# Altium footprint library Conectors.PcbLib: 137 footprints (part 4 of 9)
Each footprint in its own frame and in the unit in brackets; x right, y up, seen from the top. Pads: shape width x height; smd on the part's side, far side on the other; paste and mask are expansions set on the pad; w line width, h text height; cw(c..) or ccw(c..) is an arc to the next point about the centre after c.
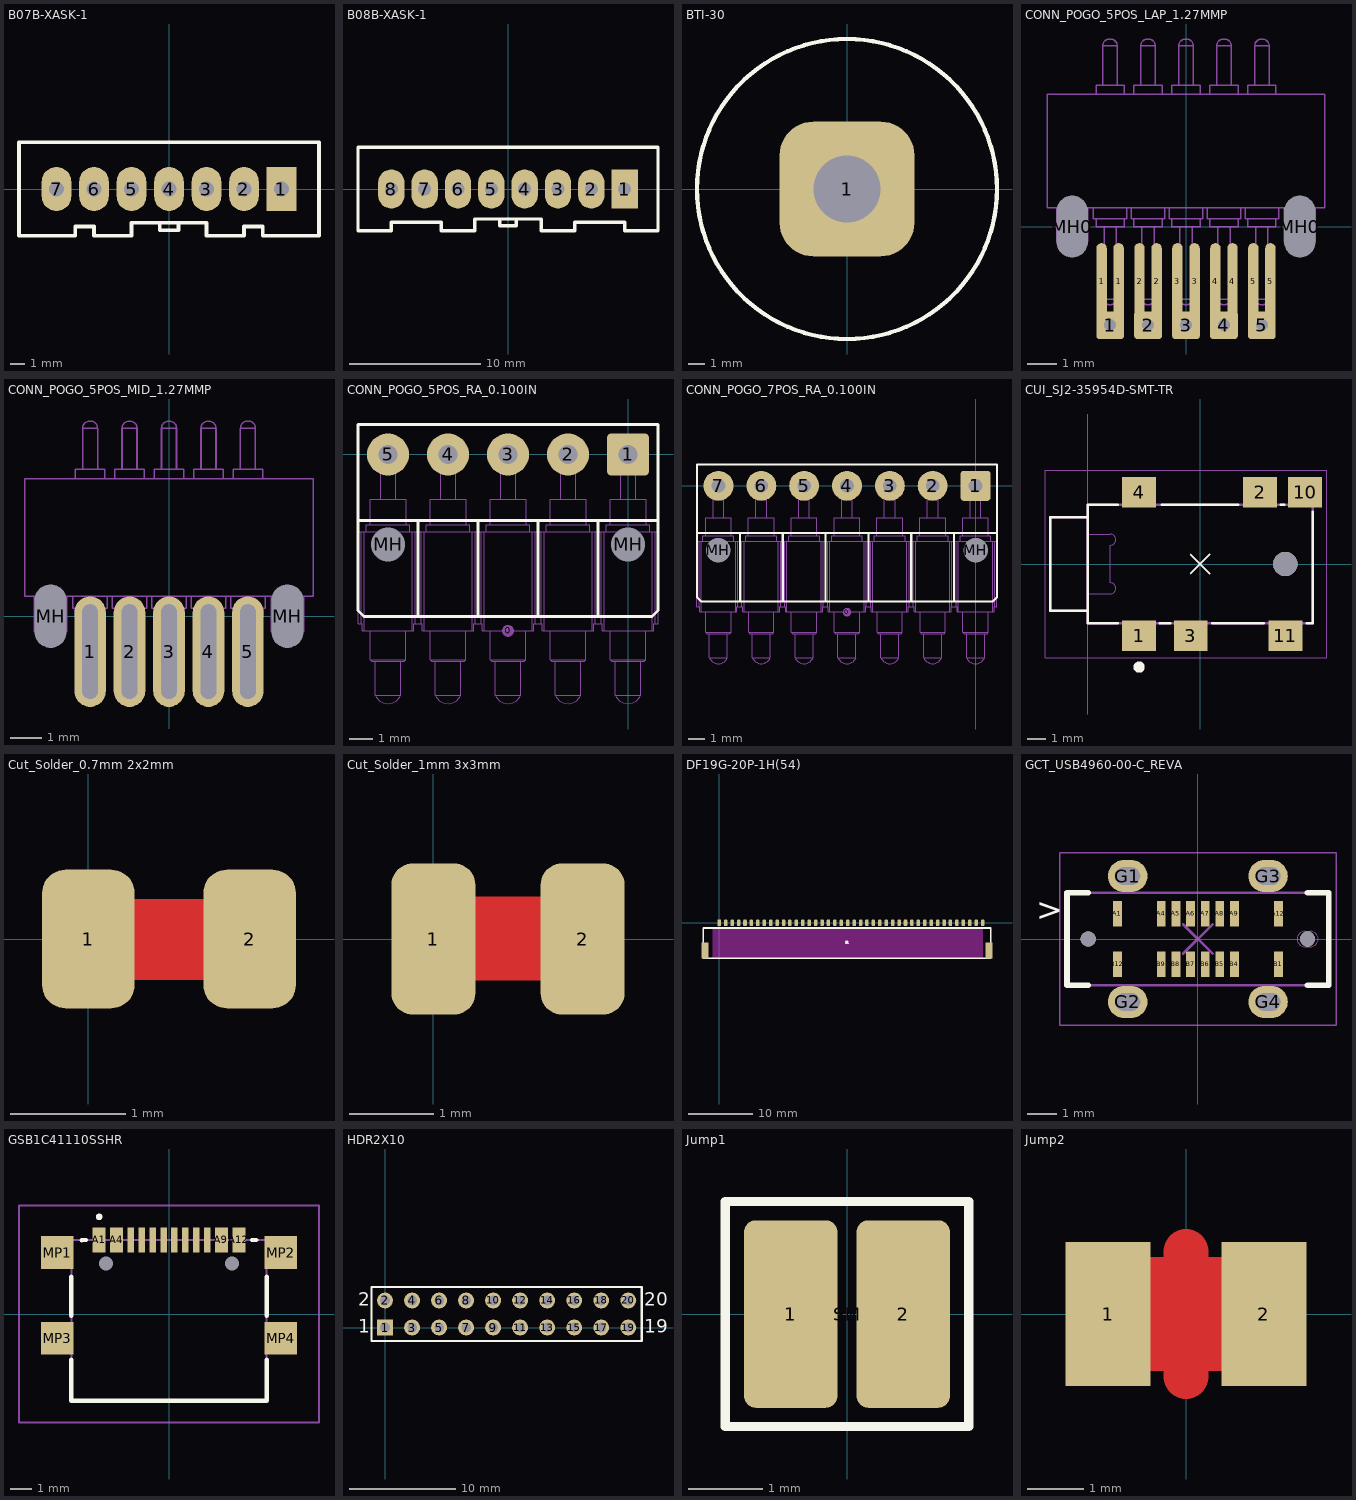
[diagram p3: the footprints below, top view; thin cyan lines are the x and y axes]

## B07B-XASK-1 [mm] "CONN HEADER XA 7POS 2.5MM TIN"
height 11.3
pads (7):
  rect 2x3 hole 1: 1(7.62,0)
  oval 2x3 hole 1: 2(5.08,0) 3(2.54,0) 4(0,0) 5(-2.54,0) 6(-5.08,0) 7(-7.62,0)
Top Overlay:
  lines w0.254: -0.635,-2.286 -0.635,-2.794 0,-2.794 0.635,-2.794 0.635,-2.286 ; -10.16,-3.175 -10.16,3.175 10.16,3.175 10.16,-3.175 6.35,-3.175 6.35,-2.54 5.08,-2.54 5.08,-3.175 2.54,-3.175 2.54,-2.286 -2.54,-2.286 -2.54,-3.175 -5.08,-3.175 -5.08,-2.54 -6.35,-2.54 -6.35,-3.175 -10.16,-3.175

## B08B-XASK-1 [mm] "CONN HEADER XA 8POS 2.5MM TIN"
height 11.3
pads (8):
  rect 2x3 hole 1: 1(8.89,0)
  oval 2x3 hole 1: 2(6.35,0) 3(3.81,0) 4(1.27,0) 5(-1.27,0) 6(-3.81,0) 7(-6.35,0) 8(-8.89,0)
Top Overlay:
  lines w0.254: -0.635,-2.286 -0.635,-2.794 0,-2.794 0.635,-2.794 0.635,-2.286 ; -11.43,-3.175 -11.43,3.175 11.43,3.175 11.43,-3.175 8.89,-3.175 8.89,-2.54 5.08,-2.54 5.08,-3.175 2.54,-3.175 2.54,-2.286 -2.54,-2.286 -2.54,-3.175 -5.08,-3.175 -5.08,-2.54 -8.89,-2.54 -8.89,-3.175 -11.43,-3.175
3D body "B08B-XASK-1.STEP": height 8.8, standoff -3.4, extent -11.25,-3.2 11.25,3.2

## BTI-30 [mm] "BTI-30 Binding post"
pads (1):
  rrect50% 8x8 hole 4: 1(0,0)
Top Overlay:
  circle w0.254: c0,0 r8.89
3D body "User Library-BTI30.step": height 25.14, standoff -33.29, extent -8.65,-8.65 8.65,8.65

## CONN_POGO_5POS_LAP_1.27MMP [mm] "Programming connector; lap-soldered 5 Position pogo style, 0.050\" pitch"
height 1.308
pads (17):
  oval 0.35x2.54 smd: 1(-2.825,-1.825) 1(-2.255,-1.825) 2(-1.555,-1.825) 2(-0.985,-1.825) 3(-0.285,-1.825) 3(0.285,-1.825) 4(0.985,-1.825) 4(1.555,-1.825) 5(2.255,-1.825) 5(2.825,-1.825)
  rrect20% 0.925x0.925 hole 0.4 mask+0.1: 1(-2.54,-3.3) 2(-1.27,-3.3) 3(0,-3.3) 4(1.27,-3.3) 5(2.54,-3.3)
  oval 0.991x2.007 hole 1.041 slot 2.057 at 90 deg unplated: MH0(-3.81,0) MH0(3.81,0)
Top Solder:
  rectangle: -2.825,-3.075 -2.25,-0.575
  rectangle: -1.555,-3.075 -0.98,-0.575
  rectangle: -0.285,-3.075 0.29,-0.575
  rectangle: 0.985,-3.075 1.56,-0.575
  rectangle: 2.255,-3.075 2.83,-0.575
Mechanical 13:
  lines w0.05: -4.331,0.635 -4.331,-0.508 -3.289,-0.508 -3.289,0.635 ; -3.099,0.635 -3.099,0.254 -1.981,0.254 -1.981,0.635 ; -3.01,0.254 -3.01,0 -2.07,0 -2.07,0.254 ; -3.01,4.42 -3.01,4.724 -2.07,4.724 -2.07,4.42 ; -2.781,4.724 -2.781,6.045 ; -2.743,0 -2.743,-2.438 ; -2.337,0 -2.337,-2.438 ; -2.299,4.724 -2.299,6.045 ; -1.829,0.635 -1.829,0.254 -0.711,0.254 -0.711,0.635 ; -1.74,0.254 -1.74,0 -0.8,0 -0.8,0.254 ; -1.74,4.42 -1.74,4.724 -0.8,4.724 -0.8,4.42 ; -1.511,4.724 -1.511,6.045 ; -1.473,0 -1.473,-2.438 ; -1.067,0 -1.067,-2.438 ; -1.029,4.724 -1.029,6.045 ; -0.559,0.635 -0.559,0.254 0.559,0.254 0.559,0.635 ; -0.47,0.254 -0.47,0 0.47,0 0.47,0.254 ; -0.47,4.42 -0.47,4.724 0.47,4.724 0.47,4.42 ; -0.241,4.724 -0.241,6.045 ; -0.203,0 -0.203,-2.438 ; 0.203,0 0.203,-2.438 ; 0.241,4.724 0.241,6.045 ; 0.711,0.635 0.711,0.254 1.829,0.254 1.829,0.635 ; 0.8,0.254 0.8,0 1.74,0 1.74,0.254 ; 0.8,4.42 0.8,4.724 1.74,4.724 1.74,4.42 ; 1.029,4.724 1.029,6.045 ; 1.067,0 1.067,-2.438 ; 1.473,0 1.473,-2.438 ; 1.511,4.724 1.511,6.045 ; 1.981,0.635 1.981,0.254 3.099,0.254 3.099,0.635 ; 2.07,0.254 2.07,0 3.01,0 3.01,0.254 ; 2.07,4.42 2.07,4.724 3.01,4.724 3.01,4.42 ; 2.299,4.724 2.299,6.045 ; 2.337,0 2.337,-2.438 ; 2.743,0 2.743,-2.438 ; 2.781,4.724 2.781,6.045 ; 3.289,0.635 3.289,-0.508 4.331,-0.508 4.331,0.635 ; -2.781,6.045 cw(c-2.553,6.045) -2.553,6.274 -2.527,6.274 cw(c-2.527,6.045) -2.299,6.045 ; -2.781,6.045 -2.299,6.045 ; -2.743,-2.438 ccw(c-2.565,-2.438) -2.565,-2.616 -2.515,-2.616 ccw(c-2.515,-2.438) -2.337,-2.438 ; -2.743,-2.438 -2.337,-2.438 ; -1.511,6.045 cw(c-1.283,6.045) -1.283,6.274 -1.257,6.274 cw(c-1.257,6.045) -1.029,6.045 ; -1.511,6.045 -1.029,6.045 ; -1.473,-2.438 ccw(c-1.295,-2.438) -1.295,-2.616 -1.245,-2.616 ccw(c-1.245,-2.438) -1.067,-2.438 ; -1.473,-2.438 -1.067,-2.438 ; -0.241,6.045 cw(c-0.013,6.045) -0.013,6.274 0.013,6.274 cw(c0.013,6.045) 0.241,6.045 ; -0.241,6.045 0.241,6.045 ; -0.203,-2.438 ccw(c-0.025,-2.438) -0.025,-2.616 0.025,-2.616 ccw(c0.025,-2.438) 0.203,-2.438 ; -0.203,-2.438 0.203,-2.438 ; 1.029,6.045 cw(c1.257,6.045) 1.257,6.274 1.283,6.274 cw(c1.283,6.045) 1.511,6.045 ; 1.029,6.045 1.511,6.045 ; 1.067,-2.438 ccw(c1.245,-2.438) 1.245,-2.616 1.295,-2.616 ccw(c1.295,-2.438) 1.473,-2.438 ; 1.067,-2.438 1.473,-2.438 ; 2.299,6.045 cw(c2.527,6.045) 2.527,6.274 2.553,6.274 cw(c2.553,6.045) 2.781,6.045 ; 2.299,6.045 2.781,6.045 ; 2.337,-2.438 ccw(c2.515,-2.438) 2.515,-2.616 2.565,-2.616 ccw(c2.565,-2.438) 2.743,-2.438 ; 2.337,-2.438 2.743,-2.438 ; -4.635,0.635 -4.635,4.42 4.635,4.42 4.635,0.635 -4.635,0.635
3D body "CONN_POGO_50MIL_05POS_LAP.STEP": height 1.31, standoff -0.9, extent -4.635,-2.616 4.636,6.274

## CONN_POGO_5POS_MID_1.27MMP [mil] "Programming connector; lap-soldered 5 Position pogo style, 0.050\" pitch"
height 13
pads (7):
  oval 40x140 hole 20 slot 120 at 90 deg: 1(-100,-45) 2(-50,-45) 3(0,-45) 4(50,-45) 5(100,-45)
  oval 38x78 hole 40 slot 80 at 90 deg unplated: MH(-150,0) MH(150,0)
Top Overlay:
  text "." at -100,-150 h3.94
Bottom Overlay:
  text "." at -100,-150 h3.94
Mechanical 13:
  lines w1.97: -170.5,25 -170.5,-20 -129.5,-20 -129.5,25 ; -122,25 -122,10 -78,10 -78,25 ; -118.5,10 -118.5,0 -81.5,0 -81.5,10 ; -118.5,174 -118.5,186 -81.5,186 -81.5,174 ; -109.5,186 -109.5,238 ; -108,0 -108,-96 ; -92,0 -92,-96 ; -90.5,186 -90.5,238 ; -72,25 -72,10 -28,10 -28,25 ; -68.5,10 -68.5,0 -31.5,0 -31.5,10 ; -68.5,174 -68.5,186 -31.5,186 -31.5,174 ; -59.5,186 -59.5,238 ; -58,0 -58,-96 ; -42,0 -42,-96 ; -40.5,186 -40.5,238 ; -22,25 -22,10 22,10 22,25 ; -18.5,10 -18.5,0 18.5,0 18.5,10 ; -18.5,174 -18.5,186 18.5,186 18.5,174 ; -9.5,186 -9.5,238 ; -8,0 -8,-96 ; 8,0 8,-96 ; 9.5,186 9.5,238 ; 28,25 28,10 72,10 72,25 ; 31.5,10 31.5,0 68.5,0 68.5,10 ; 31.5,174 31.5,186 68.5,186 68.5,174 ; 40.5,186 40.5,238 ; 42,0 42,-96 ; 58,0 58,-96 ; 59.5,186 59.5,238 ; 78,25 78,10 122,10 122,25 ; 81.5,10 81.5,0 118.5,0 118.5,10 ; 81.5,174 81.5,186 118.5,186 118.5,174 ; 90.5,186 90.5,238 ; 92,0 92,-96 ; 108,0 108,-96 ; 109.5,186 109.5,238 ; 129.5,25 129.5,-20 170.5,-20 170.5,25 ; -109.5,238 cw(c-100.5,238) -100.5,247 -99.5,247 cw(c-99.5,238) -90.5,238 ; -109.5,238 -90.5,238 ; -108,-96 ccw(c-101,-96) -101,-103 -99,-103 ccw(c-99,-96) -92,-96 ; -108,-96 -92,-96 ; -59.5,238 cw(c-50.5,238) -50.5,247 -49.5,247 cw(c-49.5,238) -40.5,238 ; -59.5,238 -40.5,238 ; -58,-96 ccw(c-51,-96) -51,-103 -49,-103 ccw(c-49,-96) -42,-96 ; -58,-96 -42,-96 ; -9.5,238 cw(c-0.5,238) -0.5,247 0.5,247 cw(c0.5,238) 9.5,238 ; -9.5,238 9.5,238 ; -8,-96 ccw(c-1,-96) -1,-103 1,-103 ccw(c1,-96) 8,-96 ; -8,-96 8,-96 ; 40.5,238 cw(c49.5,238) 49.5,247 50.5,247 cw(c50.5,238) 59.5,238 ; 40.5,238 59.5,238 ; 42,-96 ccw(c49,-96) 49,-103 51,-103 ccw(c51,-96) 58,-96 ; 42,-96 58,-96 ; 90.5,238 cw(c99.5,238) 99.5,247 100.5,247 cw(c100.5,238) 109.5,238 ; 90.5,238 109.5,238 ; 92,-96 ccw(c99,-96) 99,-103 101,-103 ccw(c101,-96) 108,-96 ; 92,-96 108,-96 ; -182.5,25 -182.5,174 182.5,174 182.5,25 -182.5,25
3D body "CONN_POGO_50MIL_05POS_LAP.STEP": height 12.5, standoff -74.5, extent -182.49,-102.99 182.51,247

## CONN_POGO_5POS_RA_0.100IN [mil] "Connector; Pogo pins; 5 Position"
height 100
pads (8):
  round 20 on Mech15: 0(-200,-294)
  rrect20% 70x70 hole 32: 1(0,0)
  round 70 hole 32: 2(-100,0) 3(-200,0) 4(-300,0) 5(-400,0)
  round 55 hole 57 unplated: MH(-400,-150) MH(0,-150)
Top Overlay:
  lines w5: -450,-110 50,-110 ; -350,-270 -350,-110 ; -250,-270 -250,-110 ; -150,-270 -150,-110 ; -50,-270 -50,-110 ; -450,-260 -450,50 50,50 50,-260 40,-270 -440,-270 -450,-260
Mechanical 13:
  lines w1.97: -445,-282 -445,-129 ; -440,-294 -440,-129 ; -436,-129 -436,-117 -364,-117 -364,-129 ; -430,-117 -430,-75 -370,-75 -370,-117 ; -429.5,-294 -429.5,-342.17 ; -421,-345 -421,-400.97 ; -412.5,-75 -412.5,0 cw(c-400,0) -387.5,0 -387.5,-75 ; -412.5,-25 -387.5,-25 ; -379,-345 -379,-400.97 ; -370.5,-294 -370.5,-342.17 ; -360,-294 -360,-129 ; -355,-282 -355,-129 ; -345,-282 -345,-129 ; -340,-294 -340,-129 ; -336,-129 -336,-117 -264,-117 -264,-129 ; -330,-117 -330,-75 -270,-75 -270,-117 ; -329.5,-294 -329.5,-342.17 ; -321,-345 -321,-400.97 ; -312.5,-75 -312.5,0 cw(c-300,0) -287.5,0 -287.5,-75 ; -312.5,-25 -287.5,-25 ; -279,-345 -279,-400.97 ; -270.5,-294 -270.5,-342.17 ; -260,-294 -260,-129 ; -255,-282 -255,-129 ; -245,-282 -245,-129 ; -240,-294 -240,-129 ; -236,-129 -236,-117 -164,-117 -164,-129 ; -230,-117 -230,-75 -170,-75 -170,-117 ; -229.5,-294 -229.5,-342.17 ; -221,-345 -221,-400.97 ; -212.5,-75 -212.5,0 cw(c-200,0) -187.5,0 -187.5,-75 ; -212.5,-25 -187.5,-25 ; -179,-345 -179,-400.97 ; -170.5,-294 -170.5,-342.17 ; -160,-294 -160,-129 ; -155,-282 -155,-129 ; -145,-282 -145,-129 ; -140,-294 -140,-129 ; -136,-129 -136,-117 -64,-117 -64,-129 ; -130,-117 -130,-75 -70,-75 -70,-117 ; -129.5,-294 -129.5,-342.17 ; -121,-345 -121,-400.97 ; -112.5,-75 -112.5,0 cw(c-100,0) -87.5,0 -87.5,-75 ; -112.5,-25 -87.5,-25 ; -79,-345 -79,-400.97 ; -70.5,-294 -70.5,-342.17 ; -60,-294 -60,-129 ; -55,-282 -55,-129 ; -45,-282 -45,-129 ; -40,-294 -40,-129 ; -36,-129 -36,-117 36,-117 36,-129 ; -30,-117 -30,-75 30,-75 30,-117 ; -29.5,-294 -29.5,-342.17 ; -21,-345 -21,-400.97 ; -12.5,-75 -12.5,0 cw(c0,0) 12.5,0 12.5,-75 ; -12.5,-25 12.5,-25 ; 21,-345 21,-400.97 ; 29.5,-294 29.5,-342.17 ; 40,-294 40,-129 ; 45,-282 45,-129 ; -429.5,-342.17 -426.67,-345 -373.33,-345 -370.5,-342.17 ; -429.5,-342.17 -370.5,-342.17 ; -421,-400.97 ccw(c-400,-392.27) -379,-400.97 ; -421,-400.97 -379,-400.97 ; -329.5,-342.17 -326.67,-345 -273.33,-345 -270.5,-342.17 ; -329.5,-342.17 -270.5,-342.17 ; -321,-400.97 ccw(c-300,-392.27) -279,-400.97 ; -321,-400.97 -279,-400.97 ; -229.5,-342.17 -226.67,-345 -173.33,-345 -170.5,-342.17 ; -229.5,-342.17 -170.5,-342.17 ; -221,-400.97 ccw(c-200,-392.27) -179,-400.97 ; -221,-400.97 -179,-400.97 ; -129.5,-342.17 -126.67,-345 -73.33,-345 -70.5,-342.17 ; -129.5,-342.17 -70.5,-342.17 ; -121,-400.97 ccw(c-100,-392.27) -79,-400.97 ; -121,-400.97 -79,-400.97 ; -29.5,-342.17 -26.67,-345 26.67,-345 29.5,-342.17 ; -29.5,-342.17 29.5,-342.17 ; -21,-400.97 ccw(c0,-392.27) 21,-400.97 ; -21,-400.97 21,-400.97 ; -450,-282 -443.33,-282 -443.33,-294 -356.67,-294 -356.67,-282 -343.33,-282 -343.33,-294 -256.67,-294 -256.67,-282 -243.33,-282 -243.33,-294 -156.67,-294 -156.67,-282 -143.33,-282 -143.33,-294 -56.67,-294 -56.67,-282 -43.33,-282 -43.33,-294 43.33,-294 43.33,-282 50,-282 50,-129 -450,-129 -450,-282
3D body "CONN_POGO_RA_5POS.STEP": height 100, standoff -127, extent -449.99,-414.99 50.01,12.51

## CONN_POGO_7POS_RA_0.100IN [mil] "Connector; Pogo pins; 7 Position"
height 100
pads (10):
  round 20 on Mech15: 0(-300,-295)
  rrect20% 70x70 hole 32: 1(0,0)
  round 70 hole 32: 2(-100,0) 3(-200,0) 4(-300,0) 5(-400,0) 6(-500,0) 7(-600,0)
  round 55 hole 57 unplated: MH(-600,-150) MH(0,-150)
Top Overlay:
  lines w5: -650,-110 50,-110 ; -550,-270 -550,-110 ; -450,-270 -450,-110 ; -350,-270 -350,-110 ; -250,-270 -250,-110 ; -150,-270 -150,-110 ; -50,-270 -50,-110 ; -650,-260 -650,50 50,50 50,-260 40,-270 -640,-270 -650,-260
Mechanical 13:
  drawing of 200 lines, arcs and shapes, not listed
3D body "CONN_POGO_RA_7POS.STEP": height 100, standoff -127, extent -649.99,-415 50.01,12.5

## CUI_SJ2-35954D-SMT-TR [mm]
pads (7):
  rect 1.8x1.65 smd: 1(-3.25,-3.825) 2(3.2,3.825) 3(-0.5,-3.825) 4(-3.25,3.825) 10(5.6,3.825) 11(4.55,-3.825)
  round 1.3 hole 1.3 unplated: ""(4.55,0)
Top Overlay:
  circle w0.3: c-3.25,-5.5 r0.15
  lines w0.1: -0.5,-0.5 0.5,0.5 ; -0.5,0.5 0.5,-0.5
  lines w0.127: -6,2.5 -8,2.5 -8,-2.5 -6,-2.5 ; -4.4,-3.15 -6,-3.15 -6,-2.5 ; -4.4,3.15 -6,3.15 -6,-2.5 ; -2.15,-3.15 -1.6,-3.15 ; -2.05,3.15 2.05,3.15 ; 0.65,-3.15 3.4,-3.15 ; 4.3,3.15 4.5,3.15 ; 5.7,-3.15 6,-3.15 6,2.8
Mechanical 1:
  lines w0: -6,-8 -6,-1.6 -4.8,-1.6 ccw(c-4.8,-1.3) -4.8,-1 -4.8,1 ccw(c-4.8,1.3) -4.8,1.6 -6,1.6 -6,8
Mechanical 13:
  lines w0.127: -6,-2.5 -6,-3.15 6,-3.15 6,3.15 -6,3.15 -6,2.5 ; -6,-2.5 -6,2.5 ; -6,-2.5 -8,-2.5 -8,2.5 -6,2.5
  text "PCB Edge" at -15.726,7.012 h1.27
Mechanical 15:
  lines w0.05: -8.25,-5 6.75,-5 6.75,5 -8.25,5 -8.25,-5
3D body "CUI_DEVICES_SJ2-35954D-SMT-TR.step": height 4.45, standoff -0.55, extent -8,-4.15 6,4.15

## Cut_Solder_0.7mm 2x2mm [mm]
pads (2):
  rrect50% 0.8x1.2 smd paste+0: 1(0,0) 2(1.397,0)
Top Layer:
  rectangle: 0.381,-0.356 1.031,0.344

## Cut_Solder_1mm 3x3mm [mm]
pads (2):
  rrect50% 1x1.8 smd paste+0: 1(0,0) 2(1.778,0)
Top Layer:
  rectangle: 0.473,-0.492 1.321,0.508

## DF19G-20P-1H(54) [mm] "Headers & Wire Housings 20P TOP BRD MNT RECP HORZ SMT"
height 1.65
pads (44):
  rect 0.55x1 smd: 1(0,0)
  rrect50% 0.55x1 smd: 2(1,0) 3(2,0) 4(3,0) 5(4,0) 6(5,0) 7(6,0) 8(7,0) 9(8,0) 10(9,0) 11(10,0) 12(11,0) 13(12,0) 14(13,0) 15(14,0) 16(15,0) 17(16,0) 18(17,0) 19(18,0) 20(19,0) 21(20,0) 22(21,0) 23(22,0) 24(23,0) 25(24,0) 26(25,0) 27(26,0) 28(27,0) 29(28,0) 30(29,0) 31(30,0) 32(31,0) 33(32,0) 34(33,0) 35(34,0) 36(35,0) 37(36,0) 38(37,0) 39(38,0) 40(39,0) 41(40,0) 42(41,0)
  rect 1.1x2.5 smd: 21(-2.225,-4.275) 22(42,-4.275)
Top Layer keep-out:
  region: -1.025,-0.8 41,-0.8 41,-3.25 41,-5.5 -1.025,-5.5
Top Overlay:
  lines w0.254: 19.7,-3.187 20.025,-2.862 ; 19.725,-2.862 20.05,-3.187 ; -2.475,-5.5 42.25,-5.5 42.25,-0.8 -2.475,-0.8 -2.475,-5.5

## GCT_USB4960-00-C_REVA [mm]
height 6.5
pads (22):
  rect 0.3x0.87 smd paste+0 mask+0.102: A1(-2.75,0.865) A4(-1.25,0.865) A5(-0.75,0.865) A6(-0.25,0.865) A7(0.25,0.865) A8(0.75,0.865) A9(1.25,0.865) A12(2.75,0.865) B1(2.75,-0.865) B4(1.25,-0.865) B5(0.75,-0.865) B6(0.25,-0.865) B7(-0.25,-0.865) B8(-0.75,-0.865) B9(-1.25,-0.865) B12(-2.75,-0.865)
  oval 1.35x1.1 hole 0.6 slot 0.85 at 0 deg mask+0.102: G1(-2.4,2.15) G2(-2.4,-2.15) G3(2.4,2.15) G4(2.4,-2.15)
  round 0.52 hole 0.52 unplated mask+0: ""(-3.75,0) ""(3.75,0)
Top Overlay:
  lines w0.2: -3.75,-1.58 -4.47,-1.58 -4.47,1.58 -3.75,1.58 ; 3.75,-1.58 4.47,-1.58 4.47,1.58 3.75,1.58
  text ".Silk" at -2.167,3.01 h3
  text ">" at -5.534,0.616 h0.8
Mechanical 1:
  lines w0: 3.39,0 cw(c3.65,0) 3.65,0.26 3.85,0.26 cw(c3.85,0) 4.11,0 cw(c3.85,0) 3.85,-0.26 3.65,-0.26 cw(c3.65,0) 3.39,0
Mechanical 13:
  lines w0.1: -4.47,-1.58 -4.47,1.58 4.47,1.58 4.47,-1.58 -4.47,-1.58
Mechanical 15:
  lines w0.05: -4.72,-2.95 -4.72,2.95 4.72,2.95 4.72,-2.95 -4.72,-2.95
  lines w0.1: -0.5,-0.5 0.5,0.5 ; -0.5,0.5 0.5,-0.5
3D body "USB4960-00-C_revA.STEP": height 6.5, standoff -0.95, extent -4.47,-2.3 4.47,2.3

## GSB1C41110SSHR [mm]
pads (18):
  rect 0.6x1.15 smd: A1(-3.2,3.39) A4(-2.4,3.39) A9(2.4,3.39) A12(3.2,3.39)
  rect 0.3x1.15 smd: A5(-1.25,3.39) A6(-0.25,3.39) A7(0.25,3.39) A8(1.25,3.39) B5(1.75,3.39) B6(0.75,3.39) B7(-0.75,3.39) B8(-1.75,3.39)
  round 0.325 hole 0.65 unplated: MH1(-2.89,2.315) MH2(2.89,2.315)
  rect 1.5x1.5 smd: MP1(-5.12,2.815) MP2(5.12,2.815) MP3(-5.12,-1.115) MP4(5.12,-1.115)
Top Overlay:
  lines w0.2: -4.47,-2.088 -4.47,-3.965 4.47,-3.965 4.47,-2.088 ; -4.47,-0.088 -4.47,1.712 ; -4,3.385 -3.8,3.39 ; 3.8,3.39 4,3.39 ; 4.47,-0.088 4.47,1.712 ; -3.2,4.4 cw(c-3.2,4.45) -3.2,4.5 ; -3.2,4.4 ccw(c-3.2,4.45) -3.2,4.5 ; -3.2,4.4 cw(c-3.2,4.45) -3.2,4.5
Mechanical 13:
  lines w0.1: -4.47,-3.965 -4.47,3.385 4.47,3.385 4.47,-3.965 -4.47,-3.965
Mechanical 15:
  lines w0.1: -6.87,-4.965 -6.87,4.965 6.87,4.965 6.87,-4.965 -6.87,-4.965
3D body "GSB1C41110SSHR.stp": height 3.12, standoff -0.76, extent -5.67,-4.088 5.67,3.51

## HDR2X10 [mm]
pads (20):
  rect 1.5x1.5 hole 0.9: 1(0,0)
  round 1.5 hole 0.9: 2(0,2.54) 3(2.54,0) 4(2.54,2.54) 5(5.08,0) 6(5.08,2.54) 7(7.62,0) 8(7.62,2.54) 9(10.16,0) 10(10.16,2.54) 11(12.7,0) 12(12.7,2.54) 13(15.24,0) 14(15.24,2.54) 15(17.78,0) 16(17.78,2.54) 17(20.32,0) 18(20.32,2.54) 19(22.86,0) 20(22.86,2.54)
Top Overlay:
  lines w0.2: -1.27,-1.27 -1.27,3.81 24.13,3.81 24.13,-1.27 -1.27,-1.27
  text "20" at 24.384,2.032 h1.27
  text "19" at 24.384,-0.508 h1.27
  text "1" at -2.54,-0.508 h1.27
  text "2" at -2.54,2.032 h1.27

## Jump1 [mil] "SMT Battery jumper pads"
pads (3):
  rrect25% 50x100 smd: 1(-30,0) 2(30,0)
  rrect25% 118x108 on Top Solder: SM(0,0)
Top Overlay:
  lines w5: -65,-60 -65,60 65,60 65,-60 -65,-60
Mechanical 13:
  lines w3: -65,-60 -65,60 65,60 65,-60 -65,-60

## Jump2 [mm] "SMT Battery jumper pads"
pads (2):
  rrect1% 1.5x2.54 smd paste-2 mask+0.102: 1(-1.373,0) 2(1.373,0)
Top Layer:
  lines w0.8: 0,-1.1 0,1.1
  lines w1: -1,-0.5 1,-0.5 ; -1,0.5 1,0.5
Top Overlay:
  lines w0.127: -0.8,-1.1 -0.8,1.1 ; 0.8,-1.1 0.8,1.1